# Altium footprint library WE-CCMF.PcbLib: 1 footprints
Each footprint in its own frame and in the unit in brackets; x right, y up, seen from the top. Pads: shape width x height; smd on the part's side, far side on the other; paste and mask are expansions set on the pad; w line width, h text height; cw(c..) or ccw(c..) is an arc to the next point about the centre after c.
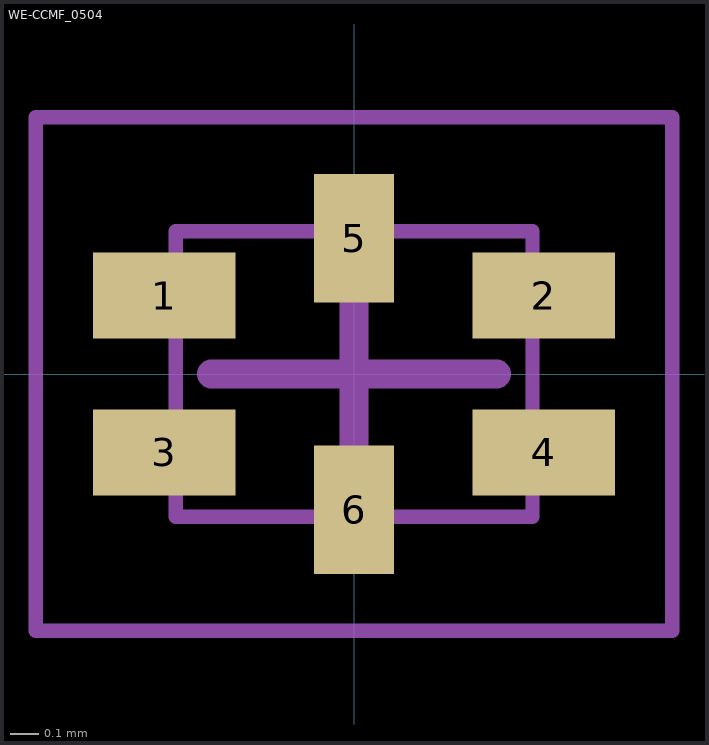
[diagram p0: the footprint, top view; thin cyan lines are the x and y axes]

## WE-CCMF_0504 [mm] "SMT Ceramic Common Mode Filter, body 1.25x1.00mm"
height 0.9
pads (6):
  rect 0.5x0.3 smd: 1(-0.665,0.275) 2(0.665,0.275) 3(-0.665,-0.275) 4(0.665,-0.275)
  rect 0.28x0.45 smd: 5(0,0.475) 6(0,-0.475)
Top Assembly:
  lines w0.05: -0.625,-0.5 0.625,-0.5 0.625,0.5 -0.625,0.5 -0.625,-0.5
Top Designator:
  text ".Designator" at -3.647,-0.357 h1
Top 3D Body:
  lines w0.05: -0.625,-0.5 0.625,-0.5 ; -0.625,-0.5 -0.625,-0.5 ; -0.625,-0.5 -0.625,0.5 0.625,0.5 0.625,-0.5 ; 0.625,-0.5 0.625,-0.5
Top Courtyard:
  lines w0.05: -1.115,-0.9 -1.115,0.9 1.115,0.9 1.115,-0.9 -1.115,-0.9
Top Component Center:
  lines w0.1: -0.5,0 0.5,0 ; 0,-0.5 0,0.5
3D body "748020024.stp": height 0.8, standoff 0, extent -0.625,-0.5 0.625,0.5